# Altium schematic symbol library ProMicro.SchLib: 1 symbol
Pins are listed as number, name and electrical type; pins without a type are passive.

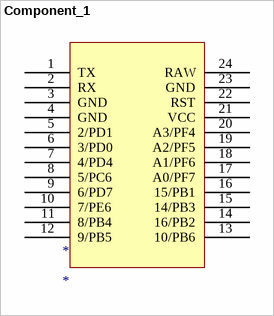
[diagram p0: symbol Component_1]

## Component_1
designator *
pins: 1 TX, 2 RX, 3 GND, 4 GND, 5 2/PD1, 6 3/PD0, 7 4/PD4, 8 5/PC6, 9 6/PD7, 10 7/PE6, 11 8/PB4, 12 9/PB5, 13 10/PB6, 14 16/PB2, 15 14/PB3, 16 15/PB1, 17 A0/PF7, 18 A1/PF6, 19 A2/PF5, 20 A3/PF4, 21 VCC, 22 RST, 23 GND, 24 RAW